# EAGLE library part MCP6064-E/SL (library MCP6064-E_SL)
None Check prices <https://pricing.snapeda.com/parts/MCP6064-E/SL/Microchip/view-part?ref=eda>
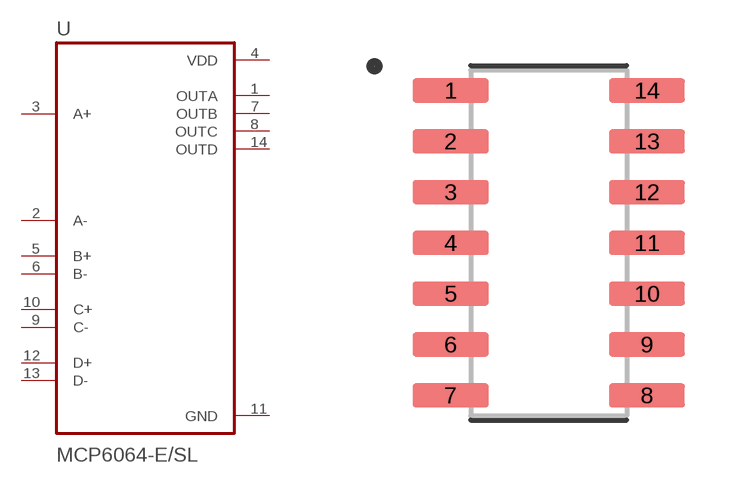
[diagram p0: symbol with the pads of SOIC127P600X175-14N; footprint SOIC127P600X175-14N]

Designator prefix U

## MCP6064-E/SL (MANUFACTURER-PART-NUMBER: MCP6064-E/SL; PACKAGE: SOIC-14 Microchip)  [SOIC127P600X175-14N]
1  OUTA  out
2  A-
3  A+
4  VDD  pwr
5  B+
6  B-
7  OUTB  out
8  OUTC  out
9  C-
10  C+
11  GND  pwr
12  D+
13  D-
14  OUTD  out

## Footprint SOIC127P600X175-14N (pad centres in mm)
smd 1.9 x 0.6: 1 -2.455,3.81; 2 -2.455,2.54; 3 -2.455,1.27; 4 -2.455,0; 5 -2.455,-1.27; 6 -2.455,-2.54; 7 -2.455,-3.81; 8 2.455,-3.81; 9 2.455,-2.54; 10 2.455,-1.27; 11 2.455,0; 12 2.455,1.27; 13 2.455,2.54; 14 2.455,3.81